# Altium footprint library SX1301DVK_e286v01a.PcbLib: 110 footprints (part 1 of 7)
Each footprint in its own frame and in the unit in brackets; x right, y up, seen from the top. Pads: shape width x height; smd on the part's side, far side on the other; paste and mask are expansions set on the pad; w line width, h text height; cw(c..) or ccw(c..) is an arc to the next point about the centre after c.
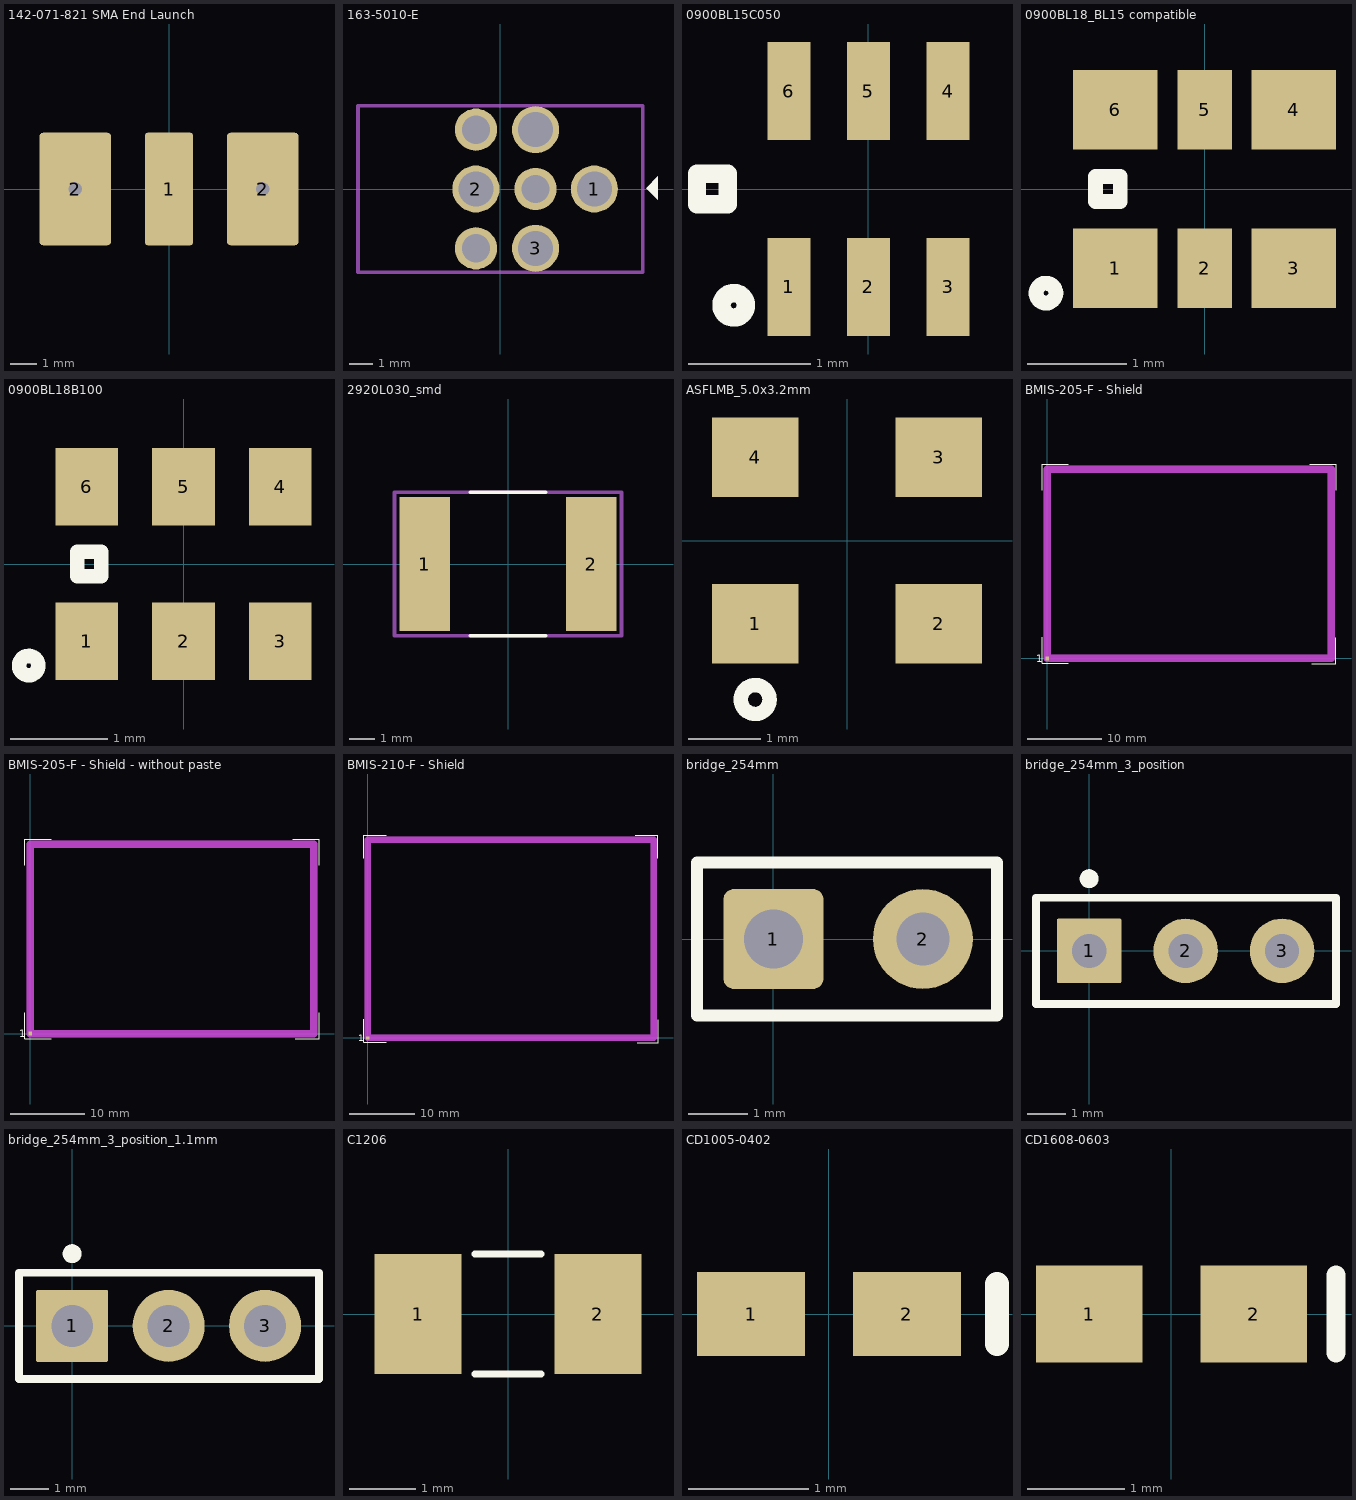
[diagram p0: the footprints below, top view; thin cyan lines are the x and y axes]

## 142-071-821 SMA End Launch [mm] "142-071-821 - Emserson SMA End Launch Jack Receptacle"
height 8
pads (3):
  rrect10% 1.78x4.19 smd paste+0 mask+0.05: 1(0,0)
  rrect10% 2.67x4.19 hole 0.5 mask+0.05: 2(-3.49,0) 2(3.49,0)
3D body: height 1, standoff 0, extent -4.85,-2.15 4.85,2.15

## 163-5010-E [mil] "163-5010-E"
height 393.7
pads (7):
  round 78 hole 58: 1(155.91,0) 2(-40.55,0) 3(58.27,-98.43) " "(58.27,98.43)
  round 70 hole 47: " "(-40.55,-98.43) " "(-40.55,98.43) " "(58.27,0)
Top Overlay:
  pour cut-out: 261.42,21.26 261.42,-18.11 241.73,1.57
Mechanical 13:
  text "1" at 149.63,0 h15.71
  text "3" at 51.99,-98.43 h15.71
  text "2" at -46.83,0 h15.71
Mechanical 15:
  lines w5.91: -236.22,-137.8 236.22,-137.8 236.22,137.8 -236.22,137.8 -236.22,-137.8

## 0900BL15C050 [mm] "0900BL15C050; Low Pass Filter; Johanson; Body 2.00 x 1.25 mm (LxW max)"
height 0.5
pads (6):
  rect 0.35x0.8 smd mask+0.05: 1(-0.65,-0.8) 2(0,-0.8) 3(0.65,-0.8) 4(0.65,0.8) 5(0,0.8) 6(-0.65,0.8)
Top Overlay:
  circle w0.15: c-1.1,-0.95 r0.1
  lines w0.15: -1.4,-0.125 -1.15,-0.125 -1.15,0.125 -1.4,0.125 -1.4,-0.125
3D body: height 12, standoff 0, extent -1,-0.625 1,0.625

## 0900BL18_BL15 compatible [mm] "0900BL18_BL15 compatible; Low Pass Filter; Johanson; Body 3.20 x 1.6 mm (LxW max)"
height 0.5
pads (6):
  rect 0.85x0.8 smd mask+0.025: 1(-0.9,-0.8) 3(0.9,-0.8) 4(0.9,0.8) 6(-0.9,0.8)
  rect 0.55x0.8 smd mask+0.025: 2(0,-0.8) 5(0,0.8)
Top Overlay:
  circle w0.15: c-1.6,-1.05 r0.1
  lines w0.15: -1.1,-0.125 -0.85,-0.125 -0.85,0.125 -1.1,0.125 -1.1,-0.125
3D body: height 12, standoff 0, extent -1.6,-0.8 1.6,0.8

## 0900BL18B100 [mm] "0900BL18B100; Low Pass Filter; Johanson; Body 3.20x 1.60 mm (LxW max)"
height 0.5
pads (6):
  rect 0.65x0.8 smd mask+0.05: 1(-1,-0.8) 2(0,-0.8) 3(1,-0.8) 4(1,0.8) 5(0,0.8) 6(-1,0.8)
Top Overlay:
  circle w0.15: c-1.6,-1.05 r0.1
  lines w0.15: -1.1,-0.125 -1.1,0.125 -0.85,0.125 -0.85,-0.125 -1.1,-0.125
3D body: height 12, standoff 0, extent -1.6,-0.8 1.6,0.8

## 2920L030_smd [mm] "Chip SMD component 2920L030 Body 7.5 x 5.1 mm (LxW typ)"
height 2
pads (2):
  rect 2x5.3 smd mask+0.05: 1(-3.3,0) 2(3.3,0)
Top Overlay:
  lines w0.15: -1.5,-2.85 1.5,-2.85 ; -1.5,2.85 1.5,2.85
Mechanical 15:
  lines w0.15: -4.5,-2.85 -4.5,2.85 4.5,2.85 4.5,-2.85 -4.5,-2.85

## ASFLMB_5.0x3.2mm [mm] "ASFLMB Crystal Oscillator SMD 5.0x3.2mm"
height 1.1
pads (4):
  rect 1.2x1.1 smd mask+0.05: 1(-1.27,-1.15) 2(1.27,-1.15) 3(1.27,1.15) 4(-1.27,1.15)
Top Overlay:
  circle w0.2: c-1.27,-2.2 r0.2
3D body: height 1, standoff 0, extent -2.5,-1.6 2.5,1.6

## BMIS-205-F - Shield [mm] "BMIS-205-F EMI Gasket - Standard Surface Mount Shields -  Laird Technologies"
height 6.5
pads (1):
  rect 0.5x0.5 smd paste-1 mask+0.05: 1(0,0)
Top Overlay:
  lines w0.1: -0.65,2.85 -0.65,-0.65 2.85,-0.65 ; -0.65,22.55 -0.65,26.05 2.85,26.05 ; 35.25,26.05 38.75,26.05 38.75,22.55 ; 35.5,-0.7 38.7,-0.7 38.7,2.8
  text "1" at -1.5,-0.5 h1
Top Paste:
  region: 37.5,22.7 37.5,25.8 38.5,25.8 38.5,22.7
  region: 37.5,16.75 37.5,20.05 38.5,20.05 38.5,16.75
  region: 37.5,10.75 37.5,14.05 38.5,14.05 38.5,10.75
  region: 37.5,5.35 37.5,8.05 38.5,8.05 38.5,5.35
  region: 37.5,-0.4 37.5,2.65 38.5,2.65 38.5,-0.4
  region: -0.4,-0.4 -0.4,2.65 0.6,2.65 0.6,-0.4
  region: -0.4,5.35 -0.4,8.05 0.6,8.05 0.6,5.35
  region: -0.4,10.75 -0.4,14.05 0.6,14.05 0.6,10.75
  region: -0.4,16.75 -0.4,20.05 0.6,20.05 0.6,16.75
  region: -0.4,22.7 -0.4,25.8 0.6,25.8 0.6,22.7
  region: 20.65,24.8 17.35,24.8 17.35,25.8 20.65,25.8
  region: 32.65,24.8 29.35,24.8 29.35,25.8 32.65,25.8
  region: 26.65,24.8 23.35,24.8 23.35,25.8 26.65,25.8
  region: 14.65,24.8 11.35,24.8 11.35,25.8 14.65,25.8
  region: 8.65,24.8 5.35,24.8 5.35,25.8 8.65,25.8
  region: 38.4,24.8 35.35,24.8 35.35,25.8 38.4,25.8
  region: 2.65,24.8 -0.4,24.8 -0.4,25.8 2.65,25.8
  region: 2.65,-0.4 -0.4,-0.4 -0.4,0.6 2.65,0.6
  region: 38.4,-0.4 35.35,-0.4 35.35,0.6 38.4,0.6
  region: 8.65,-0.4 5.35,-0.4 5.35,0.6 8.65,0.6
  region: 14.65,-0.4 11.35,-0.4 11.35,0.6 14.65,0.6
  region: 26.65,-0.4 23.35,-0.4 23.35,0.6 26.65,0.6
  region: 32.65,-0.4 29.35,-0.4 29.35,0.6 32.65,0.6
  region: 20.65,-0.4 17.35,-0.4 17.35,0.6 20.65,0.6
Top Solder:
  region: 20.65,-0.4 17.35,-0.4 17.35,0.6 20.65,0.6
  region: 32.65,-0.4 29.35,-0.4 29.35,0.6 32.65,0.6
  region: 26.65,-0.4 23.35,-0.4 23.35,0.6 26.65,0.6
  region: 14.65,-0.4 11.35,-0.4 11.35,0.6 14.65,0.6
  region: 8.65,-0.4 5.35,-0.4 5.35,0.6 8.65,0.6
  region: 38.4,-0.4 35.35,-0.4 35.35,0.6 38.4,0.6
  region: 2.65,-0.4 -0.4,-0.4 -0.4,0.6 2.65,0.6
  region: 2.65,24.8 -0.4,24.8 -0.4,25.8 2.65,25.8
  region: 38.4,24.8 35.35,24.8 35.35,25.8 38.4,25.8
  region: 8.65,24.8 5.35,24.8 5.35,25.8 8.65,25.8
  region: 14.65,24.8 11.35,24.8 11.35,25.8 14.65,25.8
  region: 26.65,24.8 23.35,24.8 23.35,25.8 26.65,25.8
  region: 32.65,24.8 29.35,24.8 29.35,25.8 32.65,25.8
  region: 20.65,24.8 17.35,24.8 17.35,25.8 20.65,25.8
  region: -0.4,22.7 -0.4,25.8 0.6,25.8 0.6,22.7
  region: -0.4,16.75 -0.4,20.05 0.6,20.05 0.6,16.75
  region: -0.4,10.75 -0.4,14.05 0.6,14.05 0.6,10.75
  region: -0.4,5.35 -0.4,8.05 0.6,8.05 0.6,5.35
  region: -0.4,-0.4 -0.4,2.65 0.6,2.65 0.6,-0.4
  region: 37.5,-0.4 37.5,2.65 38.5,2.65 38.5,-0.4
  region: 37.5,5.35 37.5,8.05 38.5,8.05 38.5,5.35
  region: 37.5,10.75 37.5,14.05 38.5,14.05 38.5,10.75
  region: 37.5,16.75 37.5,20.05 38.5,20.05 38.5,16.75
  region: 37.5,22.7 37.5,25.8 38.5,25.8 38.5,22.7
Mechanical 15 keep-out:
  lines w1: 0,0 0,25.4 38.1,25.4 38.1,0 0,0

## BMIS-205-F - Shield - without paste [mm] "BMIS-205-F EMI Gasket - Standard Surface Mount Shields -  Laird Technologies"
height 6.5
pads (1):
  rect 0.5x0.5 smd paste-1 mask+0.05: 1(0,0)
Top Overlay:
  lines w0.1: -0.7,2.8 -0.7,-0.7 2.8,-0.7 ; -0.7,22.6 -0.7,26.1 2.8,26.1 ; 35.3,26.1 38.8,26.1 38.8,22.6 ; 35.6,-0.7 38.8,-0.7 38.8,2.8
  text "1" at -1.5,-0.5 h1
Top Solder:
  region: 37.5,22.7 37.5,25.8 38.5,25.8 38.5,22.7
  region: 37.5,16.75 37.5,20.05 38.5,20.05 38.5,16.75
  region: 37.5,10.75 37.5,14.05 38.5,14.05 38.5,10.75
  region: 37.5,5.35 37.5,8.05 38.5,8.05 38.5,5.35
  region: 37.5,-0.4 37.5,2.65 38.5,2.65 38.5,-0.4
  region: -0.4,-0.4 -0.4,2.65 0.6,2.65 0.6,-0.4
  region: -0.4,5.35 -0.4,8.05 0.6,8.05 0.6,5.35
  region: -0.4,10.75 -0.4,14.05 0.6,14.05 0.6,10.75
  region: -0.4,16.75 -0.4,20.05 0.6,20.05 0.6,16.75
  region: -0.4,22.7 -0.4,25.8 0.6,25.8 0.6,22.7
  region: 20.65,24.8 17.35,24.8 17.35,25.8 20.65,25.8
  region: 32.65,24.8 29.35,24.8 29.35,25.8 32.65,25.8
  region: 26.65,24.8 23.35,24.8 23.35,25.8 26.65,25.8
  region: 14.65,24.8 11.35,24.8 11.35,25.8 14.65,25.8
  region: 8.65,24.8 5.35,24.8 5.35,25.8 8.65,25.8
  region: 38.4,24.8 35.35,24.8 35.35,25.8 38.4,25.8
  region: 2.65,24.8 -0.4,24.8 -0.4,25.8 2.65,25.8
  region: 2.65,-0.4 -0.4,-0.4 -0.4,0.6 2.65,0.6
  region: 38.4,-0.4 35.35,-0.4 35.35,0.6 38.4,0.6
  region: 8.65,-0.4 5.35,-0.4 5.35,0.6 8.65,0.6
  region: 14.65,-0.4 11.35,-0.4 11.35,0.6 14.65,0.6
  region: 26.65,-0.4 23.35,-0.4 23.35,0.6 26.65,0.6
  region: 32.65,-0.4 29.35,-0.4 29.35,0.6 32.65,0.6
  region: 20.65,-0.4 17.35,-0.4 17.35,0.6 20.65,0.6
Mechanical 15 keep-out:
  lines w1: 0,0 38.1,0 38.1,25.4 0,25.4 0,0

## BMIS-210-F - Shield [mm] "BMIS-210-F EMI Gasket - Standard Surface Mount Shields -  Laird Technologies"
height 6.5
pads (1):
  rect 0.5x0.5 smd paste-1 mask+0.05: 1(0,0)
Top Overlay:
  lines w0.1: -0.65,2.85 -0.65,-0.65 2.85,-0.65 ; -0.65,27.65 -0.65,31.15 2.85,31.15 ; 41.15,31.15 44.65,31.15 44.65,27.65 ; 41.45,-0.7 44.65,-0.7 44.65,2.8
  text "1" at -1.5,-0.5 h1
Top Solder:
  region: 43.5,15.1 43.5,31 44.5,31 44.5,15.1
  region: 44.5,12.15 44.5,-0.5 43.5,-0.5 43.5,12.15
  region: 0.5,1.15 0.5,-0.5 -0.5,-0.5 -0.5,1.15
  region: 44.5,-0.5 -0.5,-0.5 -0.5,0.5 44.5,0.5
  region: 44.5,30 -0.5,30 -0.5,31 44.5,31
  region: -0.5,25.65 -0.5,31 0.5,31 0.5,25.65
  region: -0.5,10.2 -0.5,14.9 0.5,14.9 0.5,10.2
  region: -0.5,20.775 -0.5,23.425 0.5,23.425 0.5,20.775
Mechanical 15 keep-out:
  lines w1: 0,0 44,0 44,30.5 0,30.5 0,0
3D body: height 1, standoff 0, extent -0.3,-0.3 0.3,0.3

## bridge_254mm [mm] "Generic Bridge 2.54mm, 2 Leads 0.9mm;"
height 1
pads (2):
  rrect20% 1.7x1.7 hole 1 paste+0 mask+0.05: 1(0,0)
  round 1.7 hole 0.9 paste+0 mask+0.05: 2(2.54,0)
Top Overlay:
  lines w0.2: -1.3,-1.3 3.8,-1.3 3.8,1.3 -1.3,1.3 -1.3,-1.3

## bridge_254mm_3_position [mm] "Generic Bridge 2.54mm, 3 Leads; Hole Size 0.9mm;"
height 1
pads (3):
  rrect5% 1.7x1.7 hole 0.9 paste+0 mask+0.05: 1(0,0)
  round 1.7 hole 0.9 paste+0 mask+0.05: 2(2.54,0) 3(5.08,0)
Top Overlay:
  circle w0.25: c0,1.9 r0.125
  lines w0.2: -1.4,-1.4 6.5,-1.4 6.5,1.4 -1.4,1.4 -1.4,-1.4

## bridge_254mm_3_position_1.1mm [mm] "Generic Bridge 2.54mm, 3 Leads; Hole Size 1.1mm;"
height 1
pads (3):
  rrect5% 1.9x1.9 hole 1.1 paste+0 mask+0.05: 1(0,0)
  round 1.9 hole 1.1 paste+0 mask+0.05: 2(2.54,0) 3(5.08,0)
Top Overlay:
  circle w0.25: c0,1.9 r0.125
  lines w0.2: -1.4,-1.4 6.5,-1.4 6.5,1.4 -1.4,1.4 -1.4,-1.4

## C1206 [mm] "C1206"
height 1
pads (2):
  rect 1.3x1.801 smd mask+0.05: 1(-1.35,0) 2(1.35,0)
Top Overlay:
  lines w0.1: -0.5,-0.9 0.5,-0.9 ; -0.5,0.9 0.5,0.9

## CD1005-0402 [mm] "Chip Diode; Body 1.0 x 0.5 mm (LxW typ)"
height 0.6
pads (2):
  rect 0.9x0.7 smd mask+0.05: 1(-0.65,0) 2(0.65,0)
Top Overlay:
  lines w0.2: 1.4,-0.25 1.4,0.25

## CD1608-0603 [mm] "Chip Diode; Body 1.6 x 0.8 mm (LxW typ)"
height 0.85
pads (2):
  rect 1.1x1 smd mask+0.05: 1(-0.85,0) 2(0.85,0)
Top Overlay:
  lines w0.2: 1.7,-0.4 1.7,0.4